# Altium footprint library Mill-Max.PcbLib: 3 footprints
Each footprint in its own frame and in the unit in brackets; x right, y up, seen from the top. Pads: shape width x height; smd on the part's side, far side on the other; paste and mask are expansions set on the pad; w line width, h text height; cw(c..) or ccw(c..) is an arc to the next point about the centre after c.
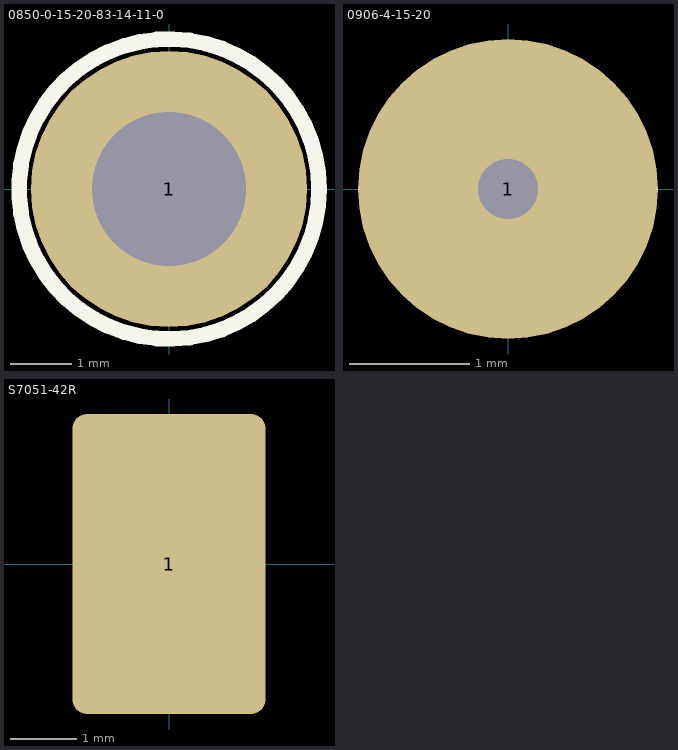
[diagram p0: the footprints below, top view; thin cyan lines are the x and y axes]

## 0850-0-15-20-83-14-11-0 [mm]
pads (1):
  round 4.5 hole 2.5 mask+0.102: 1(0,0)
Top Overlay:
  circle w0.254: c0,0 r2.443
3D body "Pogo Pin.SLDPRT": height 5.61, standoff -4.4, extent -1.943,-1.94 1.943,1.94

## 0906-4-15-20 [mm]
pads (1):
  round 2.5 hole 0.5: 1(0,0)
3D body "0906-4-15-20.STEP": height 5.99, standoff -1.76, extent -0.915,-0.915 0.915,0.915

## S7051-42R [mm] "6mm Gold Spring Contact"
pads (1):
  rrect15% 2.9x4.5 smd: 1(0,0)